# EAGLE library part TD62083 (library densikit)
TOSHIBA 8ch Darlington sink driver TD62083 <http://www.google.co.jp/url?sa=t&source=web&cd=1&ved=0CCIQFjAA&url=http%3A%2F%2Fwww.semicon.toshiba.co.jp%2Fdocget.jsp%3Fpid%3DTD62083AFNG%26lang%3Dja%26type%3Ddatasheet&ei=IIJpTcKcIMyecaWa_I0M&usg=AFQjCNFylYZGHnNsLpwE3HtjB_BZM5OlUg&sig2=lBN-B4hn6U-nKCfMLRU82A> APG (DIP-18) Akizukidensi I-01516 100YEN KyouritsuEleshop W2113O <http://eleshop.jp/shop/g/gW2113O/> 136YEN AFG (SOP-18)
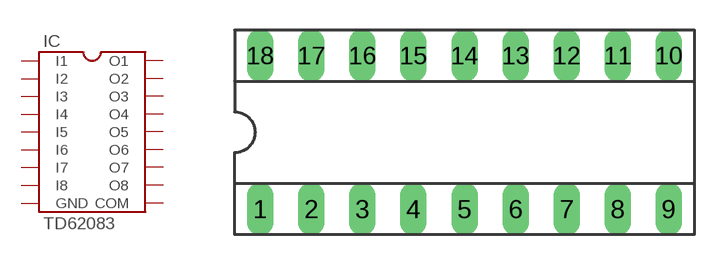
[diagram p2: symbol with the pads of SOCKET-18; footprint SOCKET-18]

Designator prefix IC

## TD62083AFN(DIP)  [SOCKET-18]
1  I1  pas
2  I2  pas
3  I3  pas
4  I4  pas
5  I5  pas
6  I6  pas
7  I7  pas
8  I8  pas
9  GND  pwr
10  COM  pas
11  O8  pas
12  O7  pas
13  O6  pas
14  O5  pas
15  O4  pas
16  O3  pas
17  O2  pas
18  O1  pas

## Footprint SOCKET-18 (pad centres in mm)
Dual In Line Socket
drill 0.813 long: 1 -10.16,-3.81; 2 -7.62,-3.81; 3 -5.08,-3.81; 4 -2.54,-3.81; 5 0,-3.81; 6 2.54,-3.81; 7 5.08,-3.81; 8 7.62,-3.81; 9 10.16,-3.81; 10 10.16,3.81; 11 7.62,3.81; 12 5.08,3.81; 13 2.54,3.81; 14 0,3.81; 15 -2.54,3.81; 16 -5.08,3.81; 17 -7.62,3.81; 18 -10.16,3.81